# Altium schematic symbol library tusb3210.SchLib: 3 symbols
Pins are listed as number, name and electrical type; pins without a type are passive.

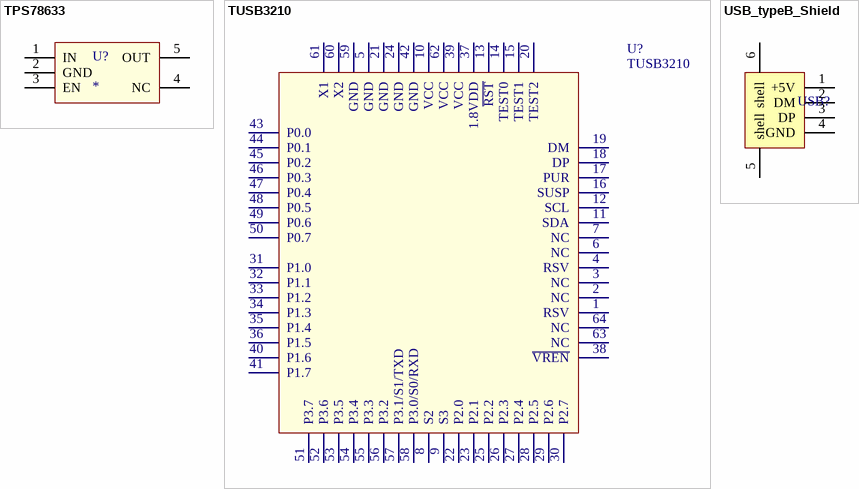
[diagram p0: symbols TPS78633 to USB_typeB_Shield]

## TPS78633
designator U?
3.3V Power
pins: 1 IN, 2 GND, 3 EN, 4 NC, 5 OUT

## TUSB3210
designator U?
footprint Quad64
pins: 1 RSV, 2 NC, 3 NC, 4 RSV, 5 GND, 6 NC, 7 NC, 8 S2, 9 S3, 10 VCC, 11 SDA, 12 SCL, 13 ~{RST}, 14 TEST0, 15 TEST1, 16 SUSP, 17 PUR, 18 DP, 19 DM, 20 TEST2, 21 GND, 22 P2.0, 23 P2.1, 24 GND, 25 P2.2, 26 P2.3, 27 P2.4, 28 P2.5, 29 P2.6, 30 P2.7, 31 P1.0, 32 P1.1, 33 P1.2, 34 P1.3, 35 P1.4, 36 P1.5, 37 1.8VDD, 38 ~{VREN}, 39 VCC, 40 P1.6, 41 P1.7, 42 GND, 43 P0.0, 44 P0.1, 45 P0.2, 46 P0.3, 47 P0.4, 48 P0.5, 49 P0.6, 50 P0.7, 51 P3.7, 52 P3.6, 53 P3.5, 54 P3.4, 55 P3.3, 56 P3.2, 57 P3.1/S1/TXD, 58 P3.0/S0/RXD, 59 GND, 60 X2, 61 X1, 62 VCC, 63 NC, 64 NC

## USB_typeB_Shield
designator USB?  (value not drawn)
footprint USB-A
pins: 1 +5V, 2 DM, 3 DP, 4 GND, 5 shell, 6 shell